# Altium footprint library PcbLib1.PcbLib: 12 footprints
Each footprint in its own frame and in the unit in brackets; x right, y up, seen from the top. Pads: shape width x height; smd on the part's side, far side on the other; paste and mask are expansions set on the pad; w line width, h text height; cw(c..) or ccw(c..) is an arc to the next point about the centre after c.
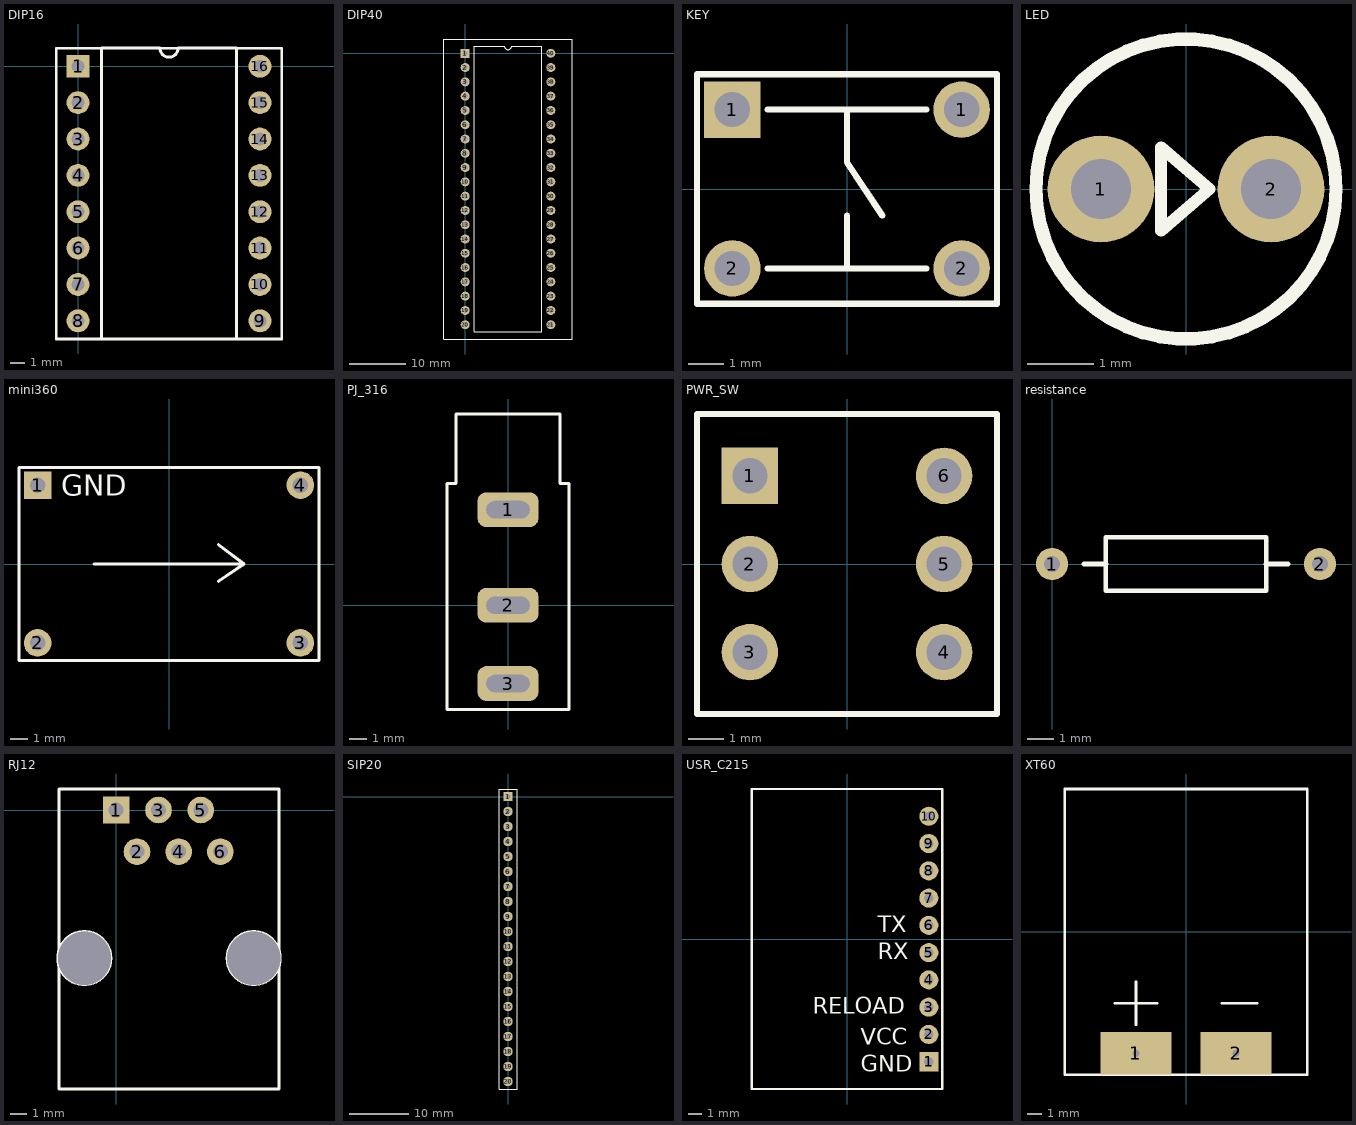
[diagram p0: the footprints below, top view; thin cyan lines are the x and y axes]

## DIP16 [mm]
pads (16):
  rect 1.6x1.6 hole 0.9: 1(0,0)
  round 1.6 hole 0.9: 2(0,-2.54) 3(0,-5.08) 4(0,-7.62) 5(0,-10.16) 6(0,-12.7) 7(0,-15.24) 8(0,-17.78) 9(12.7,-17.78) 10(12.7,-15.24) 11(12.7,-12.7) 12(12.7,-10.16) 13(12.7,-7.62) 14(12.7,-5.08) 15(12.7,-2.54) 16(12.7,0)
Top Overlay:
  lines w0.178: -1.524,-19.05 -1.524,1.27 14.224,1.27 14.224,-19.05 -1.524,-19.05
  lines w0.2: 1.635,-19.05 1.635,1.27 5.715,1.27 ccw(c6.35,1.27) 6.985,1.27 11.065,1.27 11.065,-19.05 1.635,-19.05

## DIP40 [mm]
pads (40):
  rect 1.6x1.6 hole 0.9: 1(0,0)
  round 1.6 hole 0.9: 2(0,-2.54) 3(0,-5.08) 4(0,-7.62) 5(0,-10.16) 6(0,-12.7) 7(0,-15.24) 8(0,-17.78) 9(0,-20.32) 10(0,-22.86) 11(0,-25.4) 12(0,-27.94) 13(0,-30.48) 14(0,-33.02) 15(0,-35.56) 16(0,-38.1) 17(0,-40.64) 18(0,-43.18) 19(0,-45.72) 20(0,-48.26) 21(15.24,-48.26) 22(15.24,-45.72) 23(15.24,-43.18) 24(15.24,-40.64) 25(15.24,-38.1) 26(15.24,-35.56) 27(15.24,-33.02) 28(15.24,-30.48) 29(15.24,-27.94) 30(15.24,-25.4) 31(15.24,-22.86) 32(15.24,-20.32) 33(15.24,-17.78) 34(15.24,-15.24) 35(15.24,-12.7) 36(15.24,-10.16) 37(15.24,-7.62) 38(15.24,-5.08) 39(15.24,-2.54) 40(15.24,0)
Top Overlay:
  lines w0.178: -3.81,-50.8 19.05,-50.8 19.05,2.54 -3.81,2.54 -3.81,-50.8
  lines w0.2: 1.635,-49.53 13.605,-49.53 13.605,1.27 8.255,1.27 cw(c7.62,1.27) 6.985,1.27 1.635,1.27 1.635,-49.53

## KEY [mm]
pads (4):
  rect 1.6x1.6 hole 1: 1(-3.25,2.25)
  round 1.6 hole 1: 1(3.25,2.25) 2(-3.25,-2.25) 2(3.25,-2.25)
Top Overlay:
  lines w0.178: -2.25,-2.25 2.25,-2.25 ; -2.25,2.25 2.25,2.25 ; 0,-2.25 0,-0.75 ; 0,2.25 0,0.75 1,-0.75 ; -4.25,-3.25 -4.25,3.25 4.25,3.25 4.25,-3.25 -4.25,-3.25

## LED [mm]
pads (2):
  round 1.6 hole 0.9: 1(-1.275,0) 2(1.275,0)
Top Overlay:
  circle w0.2: c0,0 r2.247
  lines w0.178: -0.375,-0.625 -0.375,0.625 0.35,0 -0.375,-0.625

## mini360 [mm]
pads (4):
  rect 1.6x1.6 hole 0.9: 1(-7.62,4.572)
  round 1.6 hole 0.9: 2(-7.62,-4.572) 3(7.62,-4.572) 4(7.62,4.572)
Top Overlay:
  lines w0.178: -4.35,0 4.35,0 ; 2.875,-1 4.35,0 ; 2.875,1.125 4.35,0 ; -8.7,-5.6 -8.7,5.6 8.7,5.6 8.7,-5.6 -8.7,-5.6
  text "GND" at -6.25,3.95 h1.2

## PJ_316 [mm]
pads (3):
  rrect50% 3.5x2 hole 1 slot 2.5 at 0 deg: 1(0,5.5) 2(0,0) 3(0,-4.5)
Top Overlay:
  lines w0.178: -3.5,-6 -3.5,7 -3,7 -3,11 3,11 3,7 3.5,7 3.5,-6 -3.5,-6

## PWR_SW [mm]
pads (6):
  rect 1.6x1.6 hole 1: 1(-2.75,2.5)
  round 1.6 hole 1: 2(-2.75,0) 3(-2.75,-2.5) 4(2.75,-2.5) 5(2.75,0) 6(2.75,2.5)
Top Overlay:
  lines w0.178: -4.25,-4.25 -4.25,4.25 4.25,4.25 4.25,-4.25 -4.25,-4.25

## resistance [mm]
pads (2):
  round 1.2 hole 0.6: 1(0,0) 2(10,0)
Top Overlay:
  lines w0.178: 2,-1 8,-1 8,1 2,1 2,0 2,-1
  lines w0.2: 1.2,0 2,0 ; 8,0 8.8,0

## RJ12 [mm]
pads (6):
  rect 1.6x1.6 hole 0.9: 1(0,0)
  round 1.6 hole 0.9: 2(1.25,-2.5) 3(2.54,0) 4(3.75,-2.5) 5(5.08,0) 6(6.25,-2.5)
via -1.9,-8.9 diameter 3.2 hole 3.2
via 8.25,-8.9 diameter 3.2 hole 3.2
Top Overlay:
  circle w0.17: c8.25,-8.89 r1.6
  circle w0.17: c-1.91,-8.89 r1.6
  lines w0.178: -3.425,-16.74 -3.425,1.26 9.775,1.26 9.775,-16.74 -3.425,-16.74

## SIP20 [mm]
pads (20):
  rect 1.6x1.6 hole 0.9: 1(0,0)
  round 1.6 hole 0.9: 2(0,-2.54) 3(0,-5.08) 4(0,-7.62) 5(0,-10.16) 6(0,-12.7) 7(0,-15.24) 8(0,-17.78) 9(0,-20.32) 10(0,-22.86) 11(0,-25.4) 12(0,-27.94) 13(0,-30.48) 14(0,-33.02) 15(0,-35.56) 16(0,-38.1) 17(0,-40.64) 18(0,-43.18) 19(0,-45.72) 20(0,-48.26)
Top Overlay:
  lines w0.178: 1.524,-49.53 -1.524,-49.53 -1.524,1.27 1.524,1.27
  lines w0.2: 1.524,-49.53 1.524,1.27

## USR_C215 [mm]
pads (10):
  rect 1.4x1.4 hole 0.7: 1(6,-9)
  round 1.4 hole 0.7: 2(6,-7) 3(6,-5) 4(6,-3) 5(6,-1) 6(6,1) 7(6,3) 8(6,5) 9(6,7) 10(6,9)
Top Overlay:
  lines w0.178: -7,-11 7,-11 7,11 -7,11 -7,-11
  text "GND" at 1,-9.75 h1.2
  text "VCC" at 1,-7.75 h1.2
  text "RELOAD" at -2.5,-5.5 h1.2
  text "TX" at 2.25,0.5 h1.2
  text "RX" at 2.25,-1.5 h1.2

## XT60 [mm]
pads (2):
  rect 5x3 hole 0.5: 1(-3.5,-8.5) 2(3.5,-8.5)
Top Overlay:
  lines w0.178: -5,-5 -2,-5 ; -3.5,-6.5 -3.5,-3.5 ; 2.5,-5 5,-5 ; -8.5,-10 -8.5,10 8.5,10 8.5,-10 -8.5,-10